# Altium footprint library xPcbLib.PcbLib: 3 footprints
Each footprint in its own frame and in the unit in brackets; x right, y up, seen from the top. Pads: shape width x height; smd on the part's side, far side on the other; paste and mask are expansions set on the pad; w line width, h text height; cw(c..) or ccw(c..) is an arc to the next point about the centre after c.
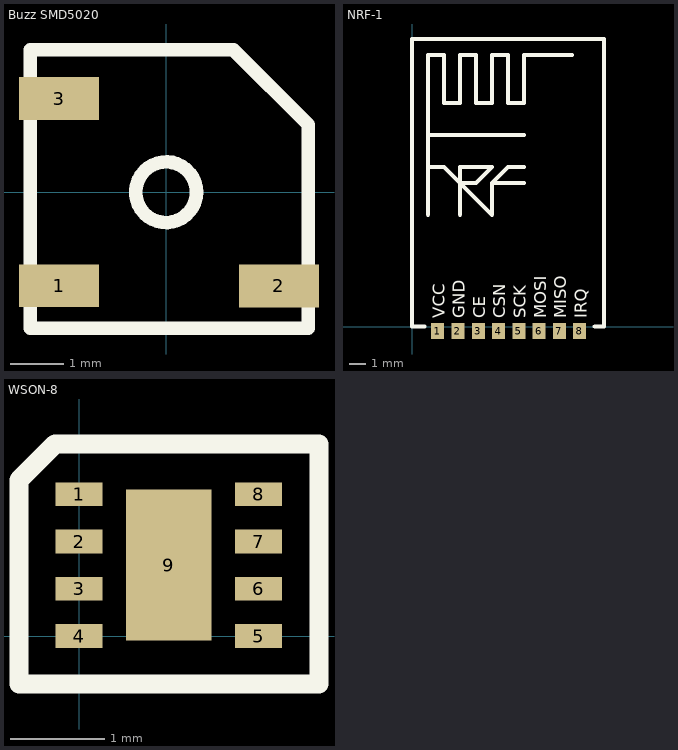
[diagram p0: the footprints below, top view; thin cyan lines are the x and y axes]

## Buzz SMD5020 [mm]
pads (3):
  rect 1.5x0.8 smd: 1(-2,-1.75) 2(2.108,-1.753) 3(-2,1.75)
Top Overlay:
  circle w0.254: c0,0 r0.568
  lines w0.254: -2.54,-2.54 -2.54,2.66 1.26,2.66 2.66,1.26 2.66,-2.54 -2.54,-2.54

## NRF-1 [mm]
pads (8):
  rect 0.813x1 smd: 1(1.6,-0.275) 2(2.87,-0.275) 3(4.14,-0.275) 4(5.41,-0.275) 5(6.68,-0.275) 6(7.95,-0.275) 7(9.22,-0.275) 8(10.49,-0.275)
Top Overlay:
  lines w0.254: 0.762,0 0,0 0,18 12,18 12,0 11.43,0 ; 1,7 1,11 ; 1,9 1,11 ; 1,10 2,10 3,9 ; 7,9 5,9 ; 7,10 6,10 5,9 ; 7,12 1,12 ; 10,17 8,17 7,17 7,14 6,14 6,17 5,17 5,14 4,14 4,17 3,17 3,14 2,14 2,17 1,17 1,12 ; 1,11 1,12 ; 3,9 5,7 5,9 ; 3,9 4,9 5,10 3,10 3,9 ; 3,9 3,7 3,9
  text "VCC" at 2.032,0.508 h0.76
  text "GND" at 3.302,0.508 h0.76
  text "CE" at 4.572,0.508 h0.76
  text "CSN" at 5.842,0.508 h0.76
  text "SCK" at 7.112,0.508 h0.76
  text "MOSI" at 8.382,0.508 h0.76
  text "MISO" at 9.652,0.508 h0.76
  text "IRQ" at 10.922,0.508 h0.76

## WSON-8 [mm]
pads (9):
  rect 0.5x0.25 smd: 1(0,1.5) 2(0,1) 3(0,0.5) 4(0,0) 5(1.9,0) 6(1.9,0.5) 7(1.9,1) 8(1.9,1.5)
  rect 0.9x1.6 smd mask+0.102: 9(0.95,0.75)
Top Overlay:
  lines w0.2: -0.635,-0.508 2.54,-0.508 2.54,2.032 -0.254,2.032 -0.635,1.651 -0.635,-0.508